# Altium schematic symbol library Component Library.SchLib: 65 symbols
Pins are listed as number, name and electrical type; pins without a type are passive.

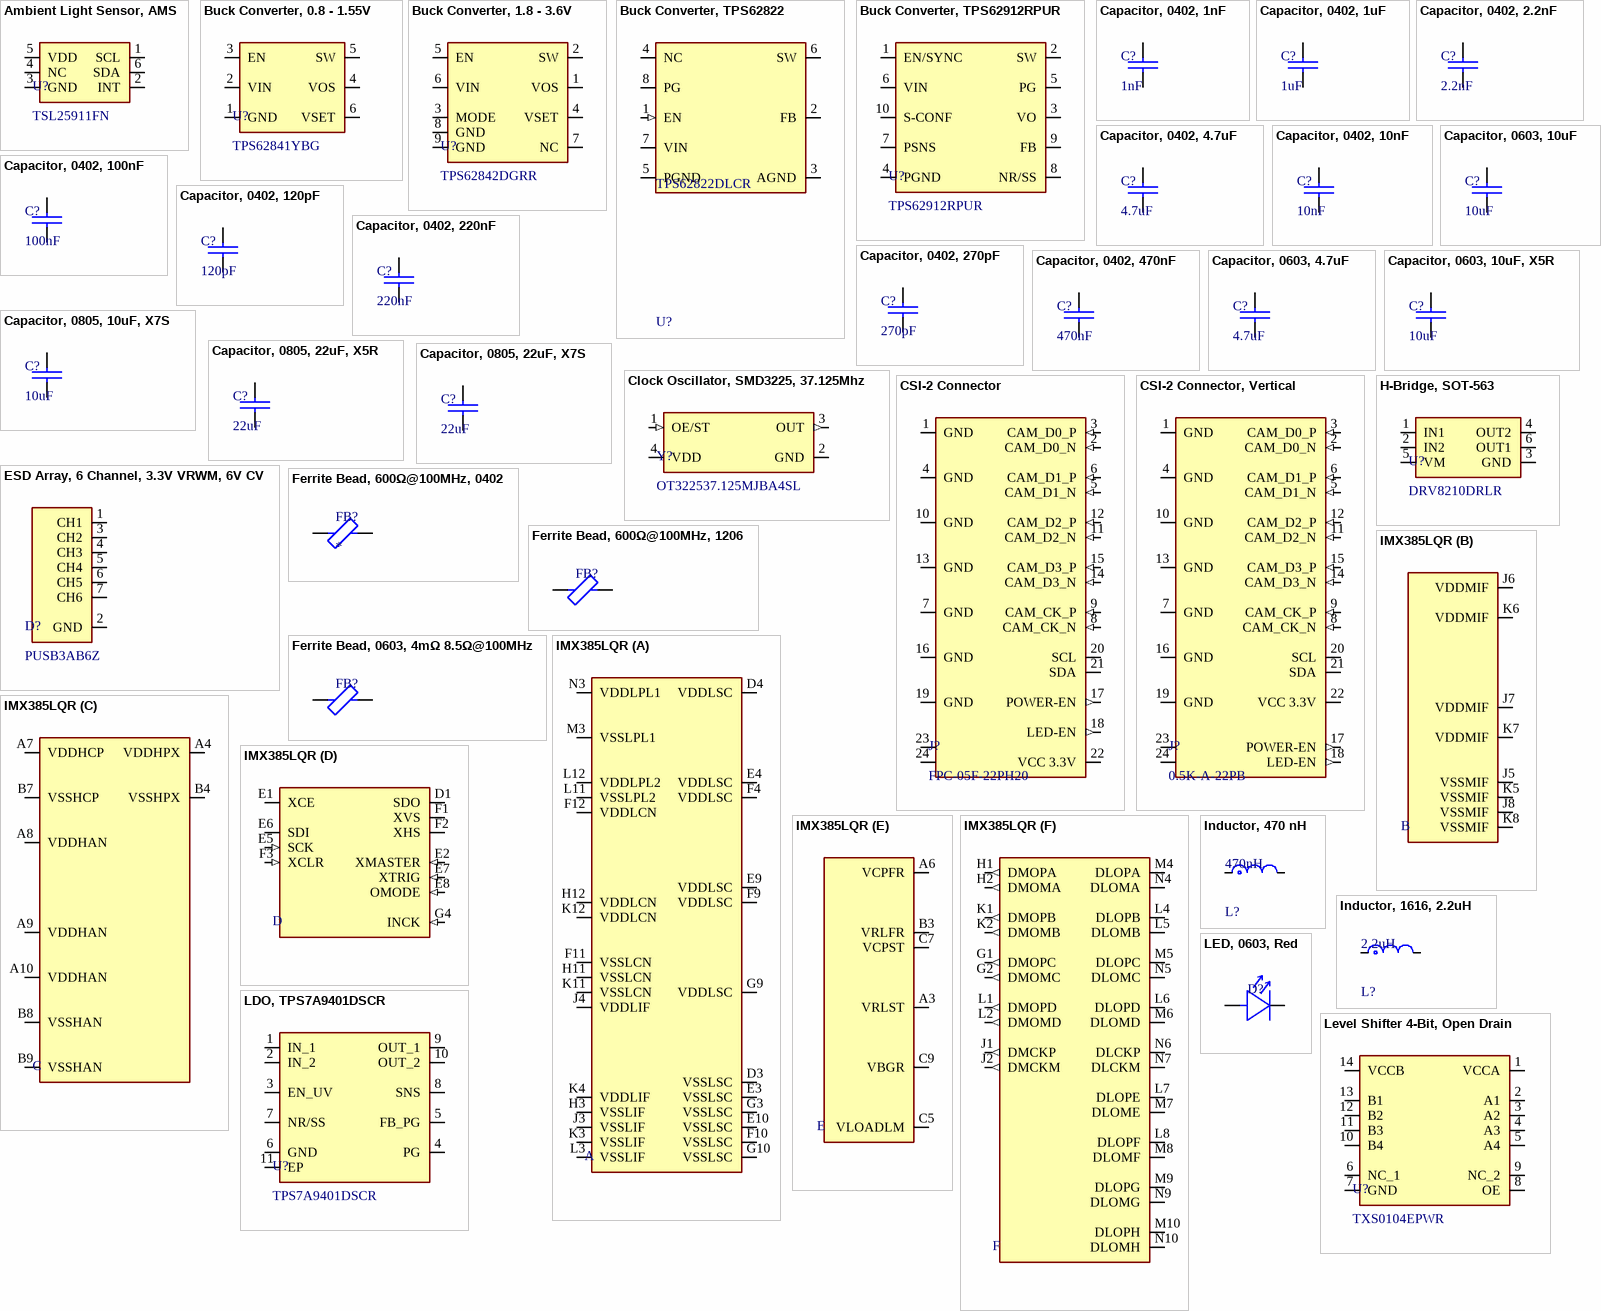
[diagram p0: symbols Ambient Light Sensor, AMS to Level Shifter 4-Bit, Open Drain]

## Ambient Light Sensor, AMS
designator U?, comment TSL25911FN
DFN-6(2x2.2) Ambient Light Sensors ROHS, JLC#C176812
footprint Ambient Light Sensors, DFN-6(2x2.2)
pins: 1 SCL, 2 INT, 3 GND, 4 NC, 5 VDD, 6 SDA

## Buck Converter, 0.8 - 1.55V
designator U?, comment TPS62841YBG
Step-down type Adjustable 750mA 1.8V~6.5V 800mV~1.55V DSBGA-6(1x1.5) DC-DC Converters ROHS, #TPS62841YBG, JLC#C2071016; Manufacturer_Name: Texas Instruments; Manufacturer_Part_Number: TPS62842DGRR; Datasheet Link: https://www.ti.com/lit/ds/symlink/tps62840.pdf; Height: 1.1mm; Mouser Part Number: 595-TPS62842DGRR; Mouser Price/Stock: https://www.mouser.co.uk/ProductDetail/Texas-Instruments/TPS62842DGRR?qs=xZ%2FP%252Ba9zWqbpi7pDQDs52A%3D%3D; Arrow Part Number: TPS62842DGRR; Arrow Price/Stock: https://www.arrow.com/en/products/tps62842dgrr/texas-instruments?region=europe
footprint Buck Converter, TPS62841YBGR
pins: 1 GND, 2 VIN, 3 EN, 4 VOS, 5 SW, 6 VSET

## Buck Converter, 1.8 - 3.6V
designator U?, comment TPS62842DGRR
HVSSOP-8-EP-0.65mm DC-DC Converters ROHS, #TPS62842DGRR, JLC#C2873354; Manufacturer_Name: Texas Instruments; Datasheet Link: https://www.ti.com/lit/ds/symlink/tps62840.pdf; Height: 1.1mm; Manufacturer_Part_Number: TPS62842DGRR; Mouser Part Number: 595-TPS62842DGRR; Mouser Price/Stock: https://www.mouser.co.uk/ProductDetail/Texas-Instruments/TPS62842DGRR?qs=xZ%2FP%252Ba9zWqbpi7pDQDs52A%3D%3D; Arrow Part Number: TPS62842DGRR; Arrow Price/Stock: https://www.arrow.com/en/products/tps62842dgrr/texas-instruments?region=europe
footprint Buck Converter, TPS62842DGRR
pins: 1 VOS, 2 SW, 3 MODE, 4 VSET, 5 EN, 6 VIN, 7 NC, 8 GND, 9 GND

## Buck Converter, TPS62822
designator U?, comment TPS62822DLCR
IC REG BUCK ADJ 2A 8VSON-HR, #TPS62822DLCR, JLC#C473385; Max Operating Temperature: 125°C; Min Operating Temperature: -40°C
footprint Buck Converter, TPS62822DLCR
pins: 1 EN (in), 2 FB, 3 AGND (power), 4 NC, 5 PGND (power), 6 SW, 7 VIN (power), 8 PG (oc)

## Buck Converter, TPS62912RPUR
designator U?, comment TPS62912RPUR
Step-down type Adjustable 2A 800mV~5.5V 3V~17V VQFN-10-HR(2x2) DC-DC Converters ROHS, JLC#C3198056; Manufacturer_Name: Texas Instruments; Datasheet Link: https://www.ti.com/lit/gpn/TPS62912; Height: 1mm; Manufacturer_Part_Number: TPS62912RPUR; Mouser Part Number: 595-TPS62912RPUR; Mouser Price/Stock: https://www.mouser.co.uk/ProductDetail/Texas-Instruments/TPS62912RPUR?qs=DRkmTr78QAT3V6egI4ak1w%3D%3D; Arrow Part Number: TPS62912RPUR; Arrow Price/Stock: https://www.arrow.com/en/products/tps62912rpur/texas-instruments?utm_currency=USD&region=europe
footprint Buck Converter, TPS62912RPUR
pins: 1 EN/SYNC, 2 SW, 3 VO, 4 PGND, 5 PG, 6 VIN, 7 PSNS, 8 NR/SS, 9 FB, 10 S-CONF

## Capacitor, 0402, 1nF
designator C?, comment 1nF
Ceramic Capacitor, 50V, 10% +/- Tol, X7R, 1nF, SMD, 0402, #GRM155R71H102KA01J, JLC#C3011658; Capacitance: 1nF
footprint Capacitor, 0402
pins: 1, 2

## Capacitor, 0402, 1uF
designator C?, comment 1uF
Ceramic Capacitor, 10V, 10% +/- Tol, X7R, 1uF, SMD, 0402, #GRM155Z71A105KE01D, JLC#C528974; Capacitance: 1uF
footprint Capacitor, 0402
pins: 1, 2

## Capacitor, 0402, 2.2nF
designator C?, comment 2.2nF
50V 2.2nF X7R ±10% 0402 Multilayer Ceramic Capacitors MLCC - SMD/SMT ROHS, #0402B222K500NT, JLC#C1531; Capacitance: 2.2nF
footprint Capacitor, 0402
pins: 1, 2

## Capacitor, 0402, 4.7uF
designator C?, comment 4.7uF
Ceramic Capacitor, 10V, 10% +/- Tol, X5R, 4.7uF, SMD, 0402, #CL05A475KP5NRNC, JLC#C368809; Capacitance: 4.7uF
footprint Capacitor, 0402
pins: 1, 2

## Capacitor, 0402, 10nF
designator C?, comment 10nF
Ceramic Capacitor, 16V, 10% +/- Tol, X7R, 10nF, SMD, 0402, #CL05B103KO5NNNC, JLC#C318577; Capacitance: 10nF
footprint Capacitor, 0402
pins: 1, 2

## Capacitor, 0402, 100nF
designator C?, comment 100nF
Ceramic Capacitor, 16V, 10% +/- Tol, X7R, 0.1uF, SMD, 0402, #CL05B104KO5NNNC, JLC#C1525; Capacitance: 100nF
footprint Capacitor, 0402
pins: 1, 2

## Capacitor, 0402, 120pF
designator C?, comment 120pF
Ceramic Capacitor, 50V, 10% +/- Tol, X7R, 120pF, SMD, 0402, #0402B121K500CT, JLC#C152813; Capacitance: 120pF
footprint Capacitor, 0402
pins: 1, 2

## Capacitor, 0402, 220nF
designator C?, comment 220nF
Ceramic Capacitor, 16V, 10% +/- Tol, X7R, 220nF, SMD, 0402, #CL05B224KO5NNNC, JLC#C16772; Capacitance: 220nF
footprint Capacitor, 0402
pins: 1, 2

## Capacitor, 0402, 270pF
designator C?, comment 270pF
50V 270pF X7R ±10% 0402 Multilayer Ceramic Capacitors MLCC - SMD/SMT ROHS, #CC0402KRX7R9BB271, JLC#C107027; Capacitance: 270pF
footprint Capacitor, 0402
pins: 1, 2

## Capacitor, 0402, 470nF
designator C?, comment 470nF
16V 470nF X7R ±10% 0402 Multilayer Ceramic Capacitors MLCC - SMD/SMT ROHS, #GRM155R71C474KE01D, JLC#C471404; Capacitance: 470nF
footprint Capacitor, 0402
pins: 1, 2

## Capacitor, 0603, 4.7uF
designator C?, comment 4.7uF
Ceramic Capacitor, 10V, 10% +/- Tol, X7R, 4.7uF, SMD, 0603, #GRM188Z71A475KE15D, JLC#C913474; Capacitance: 4.7uF
footprint Capacitor, 0603
pins: 1, 2

## Capacitor, 0603, 10uF
designator C?, comment 10uF
Ceramic Capacitor, 10V, 10% +/- Tol, X7R, 10uF, SMD, 0603, #GRM188Z71A106KA73D, JLC#C2959727; Capacitance: 10uF
footprint Capacitor, 0603
pins: 1, 2

## Capacitor, 0603, 10uF, X5R
designator C?, comment 10uF
25V 10uF X5R ±10% 0603 Multilayer Ceramic Capacitors MLCC - SMD/SMT ROHS, #GRM188R61E106KA73D, JLC#C344022; Capacitance: 10uF
footprint Capacitor, 0603
pins: 1, 2

## Capacitor, 0805, 10uF, X7S
designator C?, comment 10uF
25V 10uF X7S ±10% 0805 Multilayer Ceramic Capacitors MLCC - SMD/SMT ROHS, #GRM21BC71E106KE11L, JLC#C109040; Capacitance: 10uF
footprint Capacitor, 0805
pins: 1, 2

## Capacitor, 0805, 22uF, X5R
designator C?, comment 22uF
16V 22uF X5R ±10% 0805 Multilayer Ceramic Capacitors MLCC - SMD/SMT ROHS, #CL21A226KOQNNNE, JLC#C296720; Capacitance: 22uF
footprint Capacitor, 0805
pins: 1, 2

## Capacitor, 0805, 22uF, X7S
designator C?, comment 22uF
10V 22uF X7S ±20% 0805 Multilayer Ceramic Capacitors MLCC - SMD/SMT ROHS, #C2012X7S1A226MT000E, JLC#C342717; Capacitance: 22uF
footprint Capacitor, 0805
pins: 1, 2

## Clock Oscillator, SMD3225, 37.125Mhz
designator Y?, comment OT322537.125MJBA4SL
1.8V~3.3V ±10ppm ±20ppm CMOS 37.125MHz SMD3225-4P Crystal Oscillators ROHS, JLC#C2831393
footprint Clock Oscillator, 3235, 37.125
pins: 1 OE/ST (in), 2 GND, 3 OUT (out), 4 VDD

## CSI-2 Connector
designator J?, comment FPC-05F-22PH20
SMD,P=0.5mm,Surface Mount, Right Angle, #FPC-05F-22PH20, #C2856804
footprint FFC Connector (#FPC-05F-22PH20, JLC#)
pins: 1 GND, 2 CAM_D0_N (in), 3 CAM_D0_P (in), 4 GND, 5 CAM_D1_N (in), 6 CAM_D1_P (in), 7 GND, 8  CAM_CK_N (in), 9 CAM_CK_P (in), 10 GND, 11 CAM_D2_N (in), 12 CAM_D2_P (in), 13 GND, 14 CAM_D3_N (in), 15 CAM_D3_P (in), 16 GND, 17 POWER-EN (out), 18 LED-EN (out), 19 GND, 20 SCL (io), 21 SDA (io), 22 VCC 3.3V, 23, 24

## CSI-2 Connector, Vertical
designator J?, comment 0.5K-A-22PB
Drawer Type -20℃~+85℃ 22P Contact, Vertical - One Side Standing paste 0.5mm SMD,P=0.5mm(Staggered pins) FFC, FPC (Flat Flexible) Connector Assemblies ROHS, #0.5K-A-22PB, #C2914146
footprint FFC Connector, Vertical
pins: 1 GND, 2 CAM_D0_N (in), 3 CAM_D0_P (in), 4 GND, 5 CAM_D1_N (in), 6 CAM_D1_P (in), 7 GND, 8  CAM_CK_N (in), 9 CAM_CK_P (in), 10 GND, 11 CAM_D2_N (in), 12 CAM_D2_P (in), 13 GND, 14 CAM_D3_N (in), 15 CAM_D3_P (in), 16 GND, 17 POWER-EN (out), 18 LED-EN (out), 19 GND, 20 SCL (io), 21 SDA (io), 22 VCC 3.3V, 23, 24

## ESD Array, 6 Channel, 3.3V VRWM, 6V CV
designator D?, comment PUSB3AB6Z
6V 6V 3.3V XSON-7(1.2x2.2) ESD and Surge Protection (TVS/ESD) ROHS, #PUSB3AB6Z, JLC#C553550
footprint ESD Array, 6 Channel, 3.3V VRWM, 6V CV (PUSB3AB6Z)
pins: 1 CH1, 2 GND, 3 CH2, 4 CH3, 5 CH4, 6 CH5, 7 CH6

## Ferrite Bead, 600Ω@100MHz, 0402
designator FB?
520mΩ ±25% 600Ω@100MHz 0402 Ferrite Beads ROHS, #BLM15AG601SN1D, JLC#C76884
footprint Ferrite Bead, 0402
pins: 1, 2

## Ferrite Bead, 600Ω@100MHz, 1206
designator FB?
600Ω@ 100MHz, 1206, 2.5A, 50Ω, #74279221601, JLC#C2661423
footprint Ferrite Bead, 1206 (SMD EMI Multilayer Power Suppression Bead, body 3.20x1.60mm)
pins: 1, 2

## Ferrite Bead, 0603, 4mΩ 8.5Ω@100MHz
designator FB?, comment BLE18PS080SN1D  (value not drawn)
4mΩ 8.5Ω@100MHz 0603 Ferrite Beads ROHS, #BLE18PS080SN1D, JLC#C3764407
footprint Ferrite Bead, 0603
pins: 1, 2

## H-Bridge, SOT-563
designator U?, comment DRV8210DRLR
SOT-563 Relay / Coil Drivers ROHS, #DRV8210DRLR, JLC#C3681297
footprint H-Bridge, SOT-563
pins: 1 IN1, 2 IN2, 3 GND, 4 OUT2, 5 VM, 6 OUT1

## IMX385LQR
designator ?
footprint IMX385LQR
part A pins: D3 VSSLSC, D4 VDDLSC, E3 VSSLSC, E4 VDDLSC, E9 VDDLSC, E10 VSSLSC, F4 VDDLSC, F9 VDDLSC, F10 VSSLSC, F11 VSSLCN, F12 VDDLCN, G3 VSSLSC, G9 VDDLSC, G10 VSSLSC, H3 VSSLIF, H11 VSSLCN, H12 VDDLCN, J3 VSSLIF, J4 VDDLIF, K3 VSSLIF, K4 VDDLIF, K11 VSSLCN, K12 VDDLCN, L3 VSSLIF, L11 VSSLPL2, L12 VDDLPL2, M3 VSSLPL1, N3 VDDLPL1
part B pins: J5 VSSMIF, J6 VDDMIF, J7 VDDMIF, J8 VSSMIF, K5 VSSMIF, K6 VDDMIF, K7 VDDMIF, K8 VSSMIF
part C pins: A4 VDDHPX, A7 VDDHCP, A8 VDDHAN, A9 VDDHAN, A10 VDDHAN, B4 VSSHPX, B7 VSSHCP, B8 VSSHAN, B9 VSSHAN
part D pins: D1 SDO, E1 XCE, E2 XMASTER (in), E5 SCK (in), E6 SDI (io), E7 XTRIG (in), E8 OMODE (in), F1 XVS, F2 XHS, F3 XCLR (in), G4 INCK (in)
part E pins: A3 VRLST, A6 VCPFR, B3 VRLFR, C5 VLOADLM, C7 VCPST, C9 VBGR
part F pins: G1 DMOPC (out), G2 DMOMC (out), H1 DMOPA (out), H2 DMOMA (out), J1 DMCKP (out), J2 DMCKM (out), K1 DMOPB (out), K2 DMOMB (out), L1 DMOPD (out), L2 DMOMD (out), L4 DLOPB, L5 DLOMB, L6 DLOPD, L7 DLOPE, L8 DLOPF, M4 DLOPA, M5 DLOPC, M6 DLOMD, M7 DLOME, M8 DLOMF, M9 DLOPG, M10 DLOPH, N4 DLOMA, N5 DLOMC, N6 DLCKP, N7 DLCKM, N9 DLOMG, N10 DLOMH

## Inductor, 470 nH
designator L?, comment 470nH
Surface Mount Power Inductor, XFL4015 Series, 470 nH, 20%, Shielded, 8360 ohm, 11.2 A, #XFL4015-471MEC, JLC#C18221164; RMS Current (Irms): 11.2A; Core Material: Composite; Test Frequency: 100kHz; Self Resonant Frequency: 89MHz; Saturation Current: 3.5A; DC Resistance (DCR): 8.36mR; Case/Package: SMD/SMT; Inductance: 470nH; Min Operating Temperature: -40°C; Tolerance: 20%; Inductance Tolerance: 20%; Height: 1.6mm; Shielding: Shielded; REACH SVHC: No SVHC; Series: XFL4015; Lead Free: Contains Lead; Termination: SMD/SMT; Mount: Surface Mount; Package Quantity: 40; Width: 4.3mm; Max DC Current: 11.2A; Packaging: Tape and Reel; Max Operating Temperature: 125°C; Length: 4.3mm; RoHS Compliant: Yes
footprint Inductor, 470 nH (FP-XFL4015-MFG)
pins: 1, 2

## Inductor, 1616, 2.2uH
designator L?, comment 2.2uH
2.2uH ±20% 7A 1616 Power Inductors ROHS, #XGL4030-222MEC, JLC#C6616463; Core Material: Composite; Test Frequency: 100kHz; Shielding: Shielded; Self Resonant Frequency: 89MHz; Saturation Current: 3.5A; Max DC Current: 11.2A; DC Resistance (DCR): 8.36mR; RMS Current (Irms): 7A; Case/Package: SMD/SMT; Inductance: 2.2uH; Min Operating Temperature: -40°C; Tolerance: 20%; Inductance Tolerance: 20%; Height: 1.6mm; REACH SVHC: No SVHC; Series: XFL4015; Lead Free: Contains Lead; Termination: SMD/SMT; Mount: Surface Mount; Package Quantity: 40; Width: 4.3mm; Packaging: Tape and Reel; Max Operating Temperature: 125°C; Length: 4.3mm; RoHS Compliant: Yes
footprint Inductor, 1616
pins: 1, 2

## LDO, TPS7A9401DSCR
designator U?, comment TPS7A9401DSCR
78dB@(100kHz) 1A Adjustable 0V~5.5V 5.7V WSON-10(3x3) Voltage Regulators - Linear, Low Drop Out (LDO) Regulators ROHS, JLC#C5220127
footprint LDO, TPS7A9401DSCR
pins: 1 IN_1, 2 IN_2, 3 EN_UV, 4 PG, 5 FB_PG, 6 GND, 7 NR/SS, 8 SNS, 9 OUT_1, 10 OUT_2, 11 EP

## LED, 0603, Red
designator D?
footprint Led, 0603
pins: 13, 14

## Level Shifter 4-Bit, Open Drain
designator U?, comment TXS0104EPWR
2.3V~5.5V 1 4 1.65V~3.6V 24Mbps TSSOP-14 Translators, Level Shifters ROHS, #TXS0104EPWR, JLC#C44955
footprint Level Shifter, 4-Bit
pins: 1 VCCA, 2 A1 (io), 3 A2 (io), 4 A3 (io), 5 A4 (io), 6 NC_1, 7 GND, 8 OE, 9 NC_2, 10 B4 (io), 11 B3 (io), 12 B2 (io), 13 B1 (io), 14 VCCB

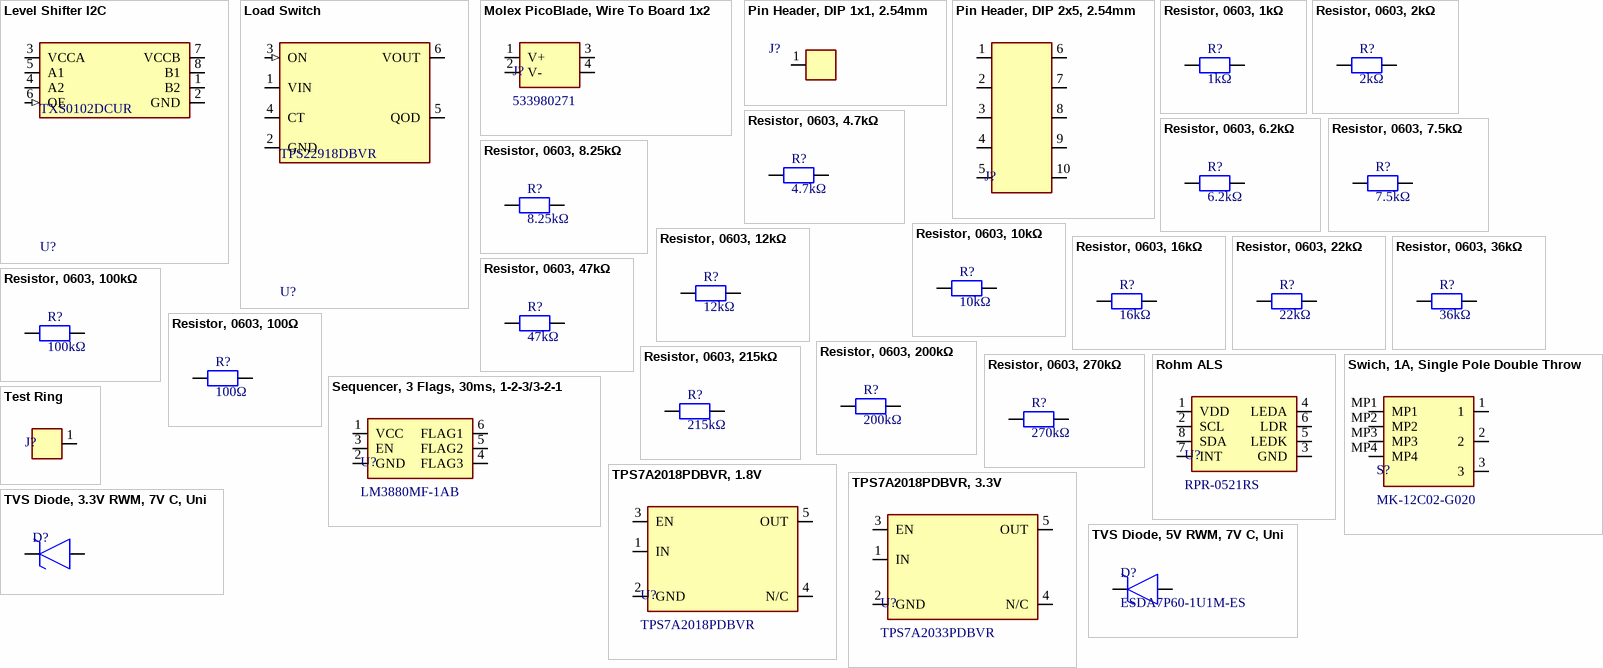
[diagram p1: symbols Level Shifter I2C to TVS Diode, 5V RWM, 7V C, Uni]

## Level Shifter I2C
designator U?, comment TXS0102DCUR
IC TRNSLTR BIDIRECTIONAL US8, #TXS0102DCUR, JLC#C53434; Manufacturer: Texas Instruments; Number Of Circuits: 1; Number Of Inputs: 2; Data Rate: 24Mbits/s; Max Junction Temp: +150°C; V A Min: 1.65V; Standoff Height: 0mm; Logic Function Desc: Bidirectional Voltage-Level Translator; Max Supply Voltage: 5.5V; V A Max: 3.6V; Nominal Supply Current: 1-14.4uA; V B Min: 2.3V; Temperature: -40°C to +85°C; Temperature Range Low: -40°C; Height: 0.9mm; Device Class L1: Integrated Circuits (ICs); RoHS: TRUE; Min Supply Voltage: 1.65V; Digikey Description: IC TRNSLTR BIDIRECTIONAL US8; ComponentLink2Description: Datasheet; Octopart: https://octopart.com/txs0102dcur-texas+instruments-5414308; Temperature Range High: +85°C; Device Class L2: Logic ICs; Category: IC; Ambient Temperature Range High: +85°C; Automotive: No; Manufacturer Part Number: TXS0102DCUR; Device Class L3: Voltage Level Shifters; Number Of Outputs: 2; Ambient Temperature Range Low: -40°C; Lead Free: Yes; ComponentLink2URL: http://www.ti.com/lit/ds/symlink/txs0102.pdf; V B Max: 5.5V; Package: DCU0008A; Mouser Description: Translation - Voltage Levels 2-Bit Bi-Directional Voltage-Level-Trans
footprint Level Shifter, 2-Bit
pins: 1 B2 (io), 2 GND (power), 3 VCCA (power), 4 A2 (io), 5 A1 (io), 6 OE (in), 7 VCCB (power), 8 B1 (io)

## Load Switch
designator U?, comment TPS22918DBVR
IC SINGLE CHANNEL LOAD SWITCH, #TPS22918DBVR, JLC#C131941; NexarPartId: 71360943; Manufacturer Lifecycle Status: ACTIVE; Fall Time: 2µs; Max Junction Temperature (Tj): 125°C; Number of Channels: 1; Output Current: 2A; Max Supply Voltage: 5.5V; Output Configuration: High Side; Min Supply Voltage: 1V; Interface: On/Off; Rise Time: 2.54ms; Turn-On Delay Time: 1.95ms; Lead Free: Lead Free; RoHS: Compliant; Ambient Temperature Range High: 105°C; Thickness: 1.2mm; Width: 1.6mm; Lifecycle Status: Production; Case/Package: SOT-23; Schedule B: 8542390000, 8542390000|8542390000|8542390000|8542390000|8542390000|8542390000|8542390000|8542390000|8542390000|8542390000|8542390000|8542390000|8542390000|8542390000|8542390000|8542390000|8542390000|8542390000|8542390000|8542390000|8542390000|8542390000|8542390000|85; Turn-Off Delay Time: 2µs; Max Output Current: 2A; Number of Outputs: 1; Number of Pins: 6; Height: 1.45mm; Number of Drivers: 1; Length: 2.9mm; Max Operating Temperature: 105°C; Min Operating Temperature: -40°C
pins: 1 VIN (power), 2 GND (power), 3 ON (in), 4 CT, 5 QOD, 6 VOUT

## Molex PicoBlade, Wire To Board 1x2
designator J?, comment 533980271
1x2P 2P PicoBlade(MX 1.25) Tin 2 -40℃~+105℃ 1A 1 1.25mm Phosphor Bronze Standing paste SMD,P=1.25mm Wire To Board Connector ROHS, #533980271, JLC#C122410
footprint Molex PicoBlade, Wire To Board 1x2, 533980271 (1x2P 2P PicoBlade(MX 1.25) Tin 2 -40℃~+105℃ 1A 1 1.25mm Phosphor Bronze Standing paste SMD,P=1.25mm Wire To Board Connector ROHS)
pins: 1 V+, 2 V-, 3, 4

## Pin Header, DIP 1x1, 2.54mm
designator J?  (value not drawn)
Gold 1kV 3A Direct Insert Policy 2.5mm 1P 6mm -40℃~+105℃ 3mm 2.54mm Brass Black Single Row 1x1P Plugin,P=2.54mm Pin Headers ROHS, #ZX-PZ2.54-1-1PZZ, JLC#C7501259; Manufacturer_Name: Amphenol; Manufacturer_Part_Number: 68001-100HLF; Datasheet Link: https://cdn.amphenol-cs.com/media/wysiwyg/files/drawing/68000.pdf; Height: 8.58mm; Mouser Part Number: 649-68001-100HLF; Mouser Price/Stock: https://www.mouser.co.uk/ProductDetail/Amphenol-FCI/68001-100HLF?qs=wCv5OTVeaq%2FwCNotFf5oHg%3D%3D
footprint Pin Header, DIP 1x1, 2.54mm
pins: 1

## Pin Header, DIP 2x5, 2.54mm
designator J?, comment ZX-PZ2.54-2-5PZZ  (value not drawn)
Gold 1kV 3A Direct Insert Policy 2.5mm 10P 6mm -40℃~+105℃ 3mm 2.54mm Brass Double Row Black 2.54mm 2x5P Plugin,P=2.54mm Pin Headers ROHS. #ZX-PZ2.54-2-5PZZ, #C7501276
footprint Pin Header, DIP 2x5, 2.54mm
pins: 1, 2, 3, 4, 5, 6, 7, 8 (io), 9 (io), 10 (io)

## Resistor, 0603, 1kΩ
designator R?, comment 1kΩ
Thick Film Resistor, ±1%, ±100ppm/℃, -55℃~+155℃, 0603 Chip Resistor - Surface Mount ROHS, #RC0603FR-071KL, JLC#C22548
footprint Resistor, 0603, Yageo
pins: 1, 2

## Resistor, 0603, 2kΩ
designator R?, comment 2kΩ
100mW Thick Film Resistors 75V ±100ppm/℃ ±1% 2kΩ 0603 Chip Resistor - Surface Mount ROHS, #RC0603FR-072KL, JLC#C105576
footprint Resistor, 0603, Yageo
pins: 1, 2

## Resistor, 0603, 4.7kΩ
designator R?, comment 4.7kΩ
Thick Film Resistor, ±1%, ±100ppm/℃, -55℃~+155℃, 0603, 4.7kΩ, #RC0603FR-074K7L, JLC#C99782
footprint Resistor, 0603, Yageo
pins: 1, 2

## Resistor, 0603, 6.2kΩ
designator R?, comment 6.2kΩ
100mW Thick Film Resistors 75V ±100ppm/℃ ±1% 6.2kΩ 0603 Chip Resistor - Surface Mount ROHS, #RC0603FR-076K2L, JLC#C114631
footprint Resistor, 0603, Yageo
pins: 1, 2

## Resistor, 0603, 7.5kΩ
designator R?, comment 7.5kΩ
100mW Thick Film Resistors 75V ±100ppm/℃ ±1% 7.5kΩ 0603 Chip Resistor - Surface Mount ROHS, #RC0603FR-077K5L, JLC#C114634
footprint Resistor, 0603, Yageo
pins: 1, 2

## Resistor, 0603, 8.25kΩ
designator R?, comment 8.25kΩ
Thick Film Resistor, ±1%, ±100ppm/℃, -55℃~+155℃, 0603, 8.25kΩ, #RC0603FR-078K25L, JLC#C185307
footprint Resistor, 0603, Yageo
pins: 1, 2

## Resistor, 0603, 10kΩ
designator R?, comment 10kΩ
Thick Film Resistor, ±1%, ±100ppm/℃, -55℃~+155℃, 0603, 10kΩ, #RC0603FR-0710KL, JLC#C98220
footprint Resistor, 0603, Yageo
pins: 1, 2

## Resistor, 0603, 12kΩ
designator R?, comment 12kΩ
Thick Film Resistor, ±1%, ±100ppm/℃, -55℃~+155℃, 0603, 12kΩ, #RC0603FR-0712KL, JLC#C114659
footprint Resistor, 0603, Yageo
pins: 1, 2

## Resistor, 0603, 16kΩ
designator R?, comment 16kΩ
100mW Thick Film Resistors 75V ±100ppm/℃ ±1% 16kΩ 0603 Chip Resistor - Surface Mount ROHS, #RC0603FR-0716KL, JLC#C137788
footprint Resistor, 0603, Yageo
pins: 1, 2

## Resistor, 0603, 22kΩ
designator R?, comment 22kΩ
Thick Film Resistor, ±1%, ±100ppm/℃, -55℃~+155℃, 0603, 22kΩ, #RC0603FR-0722KL, JLC#C114065
footprint Resistor, 0603, Yageo
pins: 1, 2

## Resistor, 0603, 36kΩ
designator R?, comment 36kΩ
100mW Thick Film Resistors 75V ±100ppm/℃ ±1% 36kΩ 0603 Chip Resistor - Surface Mount ROHS, #RC0603FR-0736KL, JLC#C114619
footprint Resistor, 0603, Yageo
pins: 1, 2

## Resistor, 0603, 47kΩ
designator R?, comment 47kΩ
Thick Film Resistor, ±1%, ±100ppm/℃, -55℃~+155℃, 0603, 47kΩ, #RC0603FR-0747KL, JLC#C105579
footprint Resistor, 0603, Yageo
pins: 1, 2

## Resistor, 0603, 100kΩ
designator R?, comment 100kΩ
Thick Film Resistor, ±1%, ±100ppm/℃, -55℃~+155℃, 0603, 100kΩ, #RC0603FR-07100KL, JLC#C14675
footprint Resistor, 0603, Yageo
pins: 1, 2

## Resistor, 0603, 100Ω
designator R?, comment 100Ω
Thick Film Resistor, ±1%, ±100ppm/℃, -55℃~+155℃, 0603, 100Ω, #RC0603FR-07100RL, JLC#C105588
footprint Resistor, 0603, Yageo
pins: 1, 2

## Resistor, 0603, 200kΩ
designator R?, comment 200kΩ
Thick Film Resistor, ±1%, ±100ppm/℃, -55℃~+155℃, 0603, 200kΩ, #RC0603FR-07200KL, JLC#C105574
footprint Resistor, 0603, Yageo
pins: 1, 2

## Resistor, 0603, 215kΩ
designator R?, comment 215kΩ
Thick Film Resistor, ±1%, ±100ppm/℃, -55℃~+155℃, 0603, 215kΩ, #RC0603FR-07215KL, JLC#C185350
footprint Resistor, 0603, Yageo
pins: 1, 2

## Resistor, 0603, 270kΩ
designator R?, comment 270kΩ
100mW Thick Film Resistors 75V ±100ppm/℃ ±1% 270Ω 0603 Chip Resistor - Surface Mount ROHS, #RC0603FR-07270KL, JLC#C137755
footprint Resistor, 0603, Yageo
pins: 1, 2

## Rohm ALS
designator U?, comment RPR-0521RS
SMD-8P Ambient Light Sensors ROHS, JLC#C509781
footprint Rohm ALS
pins: 1 VDD, 2 SCL, 3 GND, 4 LEDA, 5 LEDK, 6 LDR, 7 INT, 8 SDA

## Sequencer, 3 Flags, 30ms, 1-2-3/3-2-1
designator U?, comment LM3880MF-1AB
USON-6-EP(2.1x2.1) Ambient Light Sensors ROHS, JLC#C701867; Manufacturer_Name: Texas Instruments; Manufacturer_Part_Number: LM3880MF-1AB/NOPB; Datasheet Link: http://www.ti.com/lit/gpn/lm3880; Height: 1.45mm; Mouser Part Number: 926-LM3880MF1ABNOPB; Mouser Price/Stock: https://www.mouser.co.uk/ProductDetail/Texas-Instruments/LM3880MF-1AB-NOPB?qs=QbsRYf82W3EUDzy5l%252BzEeQ%3D%3D; Arrow Part Number: LM3880MF-1AB/NOPB; Arrow Price/Stock: https://www.arrow.com/en/products/lm3880mf-1abnopb/texas-instruments?region=nac
footprint Sequencer, SOT-23
pins: 1 VCC, 2 GND, 3 EN, 4 FLAG3, 5 FLAG2, 6 FLAG1

## Swich, 1A, Single Pole Double Throw
designator S?, comment MK-12C02-G020
Horizontal attachment 1A Single Pole Double Throw (SPDT) 6V Black 10,000 times SMD Slide Switches ROHS, JLC#C963206
footprint Swich, 1A, Single Pole Double Throw, MK-12C02-G020
pins: 1, 2, 3, MP1, MP2, MP3, MP4

## Test Ring
designator J?, comment RH-5015  (value not drawn)
Pogo Pin Spring Probe Connector ROHS, #RH-5015, JLC#C5199798
footprint Test Point
pins: 1

## TPS7A2018PDBVR, 1.8V
designator U?, comment TPS7A2018PDBVR
300mA Fixed 1.8V Positive electrode 6V SOT-23-5L Voltage Regulators - Linear, Low Drop Out (LDO) Regulators ROHS, JLC#C963430
footprint TPS7A20 - SOT-23-5L
pins: 1 IN, 2 GND, 3 EN, 4 N/C, 5 OUT

## TPS7A2018PDBVR, 3.3V
designator U?, comment TPS7A2033PDBVR
300mA Fixed 3.3V Positive electrode 6V SOT-23-5 Voltage Regulators - Linear, Low Drop Out (LDO) Regulators ROHS, JLC#C2862740
footprint TPS7A20 - SOT-23-5L
pins: 1 IN, 2 GND, 3 EN, 4 N/C, 5 OUT

## TVS Diode, 3.3V RWM, 7V C, Uni
designator D?, comment ESD9L3.3ST5G-ES  (value not drawn)
SOD-923 ESD and Surge Protection (TVS/ESD) ROHS, #ESD9L3.3ST5G-ES, JLC#C19170849
footprint TVS Diode, 3.3V RWM, 7V C, Uni (STN101050BL25)
pins: 1 K, 2 A

## TVS Diode, 5V RWM, 7V C, Uni
designator D?, comment ESDA7P60-1U1M-ES
100A 1.5kW 7V 6V Unidirectional 5V DFN1610-2L ESD and Surge Protection (TVS/ESD) ROHS, #ESDA7P60-1U1M-ES, JLC#C19170860
footprint TVS Diode, 5V RWM, 7V C, Uni (DFN1610-2L)
pins: 1 K, 2 A